# Altium schematic symbol library ICs_OpAmps.SchLib: 2 symbols
Pins are listed as number, name and electrical type; pins without a type are passive.

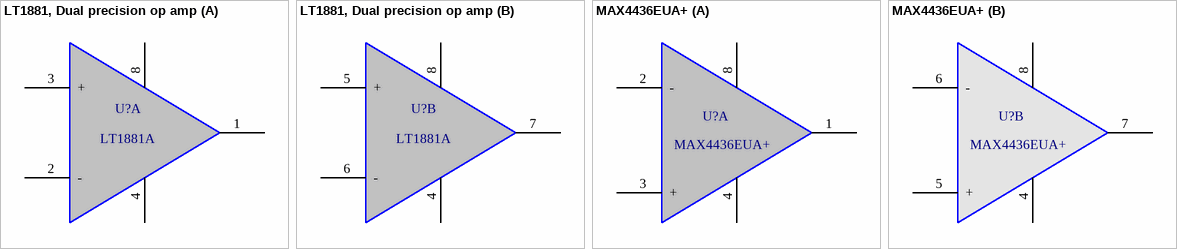
[diagram p0: symbols LT1881, Dual precision op amp to MAX4436EUA+]

## LT1881, Dual precision op amp
designator U?, comment LT1881A
footprint S8_M (8-Pin Small Outline Integrated Circuit 1.27 mm Pitch, IPC Low Density)
part A pins: 1, 2 -, 3 +, 4, 8
part B pins: 4, 5 +, 6 -, 7, 8

## MAX4436EUA+
designator U?
IC OPAMP VFB 150MHZ 8UMAX; Manufacturer: Maxim Integrated; Amplifier Type: Voltage Feedback; Number of Circuits: 2; Slew Rate: 133 V/µs; Current - Input Bias: 14µA; Voltage - Input Offset: 1mV; Current - Supply: 15mA; Current - Output / Channel: 65mA; Voltage - Supply, Single/Dual (±): 4.5 V ~ 5.5 V; Supplier 1: Digi-Key; Manufacturer Part Number: MAX4436EUA+; RoHS: RoHS Compliant; Category: Integrated Circuits (ICs); Stock 1: 150; Pricing 1: 1=9.73, 10=9.243, 25=6.49, 50=6.1656, 100=4.7, 250=4.465, 500=4.131 (USD); Packaging: Tube; Output Type: -; Gain Bandwidth Product: -; -3db Bandwidth: 150MHz; Operating Temperature: -40°C ~ 85°C; Mounting Type: Surface Mount; Package / Case: 8-TSSOP, 8-MSOP (0.118", 3.00mm Width); Supplier Device Package: 8-uMAX; ComponentLink1URL: http://datasheets.maximintegrated.com/en/ds/MAX4434-MAX4437.pdf; ComponentLink1Description: http://datasheets.maximintegrated.com/en/ds/MAX4434-MAX4437.pdf; Supplier Part Number 1: MAX4436EUA+-ND
footprint MAXIM8uMAX (TSOP, 8-Leads, Body 3.0x3.0mm (max), Pitch 0.65mm, IPC Medium Density)
part A pins: 1, 2 -, 3 +, 4, 8
part B pins: 4, 5 +, 6 -, 7, 8